# Altium schematic symbol library MIC5504-2.8YM5-TR.SchLib: 1 symbol
Pins are listed as number, name and electrical type; pins without a type are passive.

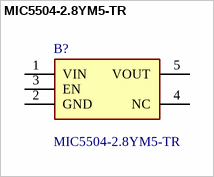
[diagram p0: symbol MIC5504-2.8YM5-TR]

## MIC5504-2.8YM5-TR
designator B?
MICROCHIP - MIC5504-2.8YM5-TR - LDO VOLT REG, 0.3A, 2.8V, SOT-23-5; Geometry.Height: 1.45mm; Manufacturer_Name: Microchip; Manufacturer_Part_Number: MIC5504-2.8YM5-TR; Mouser Part Number: 998-MIC5504-2.8YM5TR; Mouser Price/Stock: https://www.mouser.co.uk/ProductDetail/Microchip-Technology/MIC5504-2.8YM5-TR?qs=U6T8BxXiZAXJ2TbsJS3NiQ%3D%3D; Arrow Part Number: MIC5504-2.8YM5-TR; Arrow Price/Stock: https://www.arrow.com/en/products/mic5504-2.8ym5-tr/microchip-technology?region=nac; Datasheet Link: https://datasheet.datasheetarchive.com/originals/distributors/DKDS-15/280852.pdf
footprint SOT95P280X145-5N
pins: 1 VIN, 2 GND, 3 EN, 4 NC, 5 VOUT